# Altium footprint library 601030.PcbLib: 1 footprints
Each footprint in its own frame and in the unit in brackets; x right, y up, seen from the top. Pads: shape width x height; smd on the part's side, far side on the other; paste and mask are expansions set on the pad; w line width, h text height; cw(c..) or ccw(c..) is an arc to the next point about the centre after c.
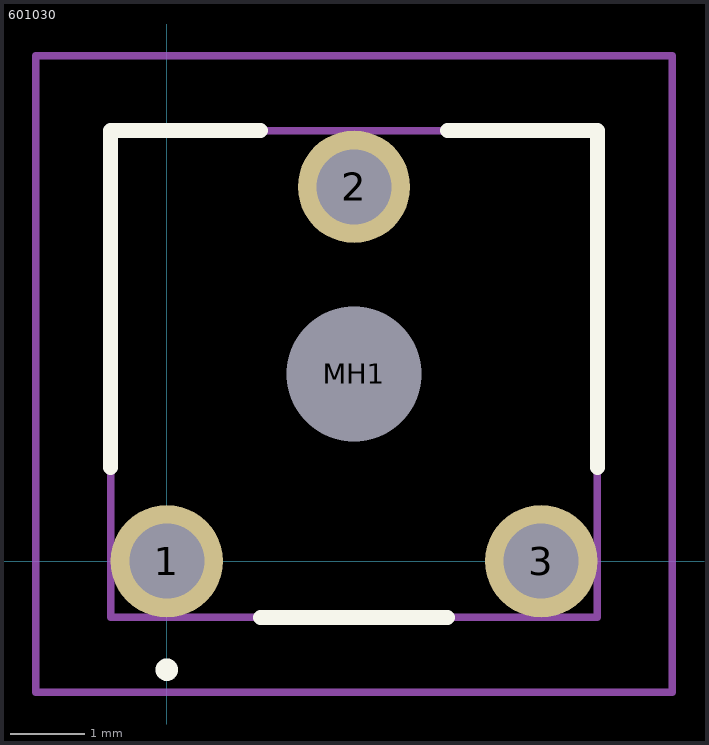
[diagram p0: the footprint, top view; thin cyan lines are the x and y axes]

## 601030 [mm]
pads (4):
  round 1.5 hole 1: 1(0,0) 2(2.5,5) 3(5,0)
  round 0.9 hole 1.8 unplated: MH1(2.5,2.5)
Top Overlay:
  lines w0.2: -0.75,1.25 -0.75,1.25 ; -0.75,1.25 -0.75,5.75 ; -0.75,1.25 -0.75,5.75 ; -0.75,5.75 -0.75,5.75 ; -0.75,5.75 1.25,5.75 ; -0.75,5.75 1.25,5.75 ; -0.75,5.75 -0.75,5.75 ; 0,-1.5 0,-1.5 ; 0,-1.5 ccw(c0,-1.45) 0,-1.4 ; 0,-1.5 cw(c0,-1.45) 0,-1.4 ; 0,-1.5 0,-1.5 ; 0,-1.5 ccw(c0,-1.45) 0,-1.4 ; 0,-1.4 0,-1.4 ; 1.25,-0.75 3.75,-0.75 ; 1.25,-0.75 1.25,-0.75 ; 1.25,-0.75 3.75,-0.75 ; 1.25,5.75 1.25,5.75 ; 3.75,-0.75 3.75,-0.75 ; 3.75,5.75 5.75,5.75 ; 3.75,5.75 5.75,5.75 ; 3.75,5.75 3.75,5.75 ; 5.75,1.25 5.75,5.75 ; 5.75,1.25 5.75,1.25 ; 5.75,1.25 5.75,5.75 ; 5.75,5.75 5.75,5.75 ; 5.75,5.75 5.75,5.75
Mechanical 15:
  lines w0.1: -0.75,-0.75 5.75,-0.75 5.75,5.75 -0.75,5.75 -0.75,-0.75
Mechanical 20:
  lines w0.1: -1.75,-1.75 6.75,-1.75 6.75,6.75 -1.75,6.75 -1.75,-1.75